# EAGLE library part MOTORSCHUTZSCHALTER_3-POL_THERM_MAG_AUSLOESUNG_ALTERNATIV (library e-motorschutzschalter)
Motorschutzschalter 3-pol mit thermischer und magnetischer Auslösung (alternativ)
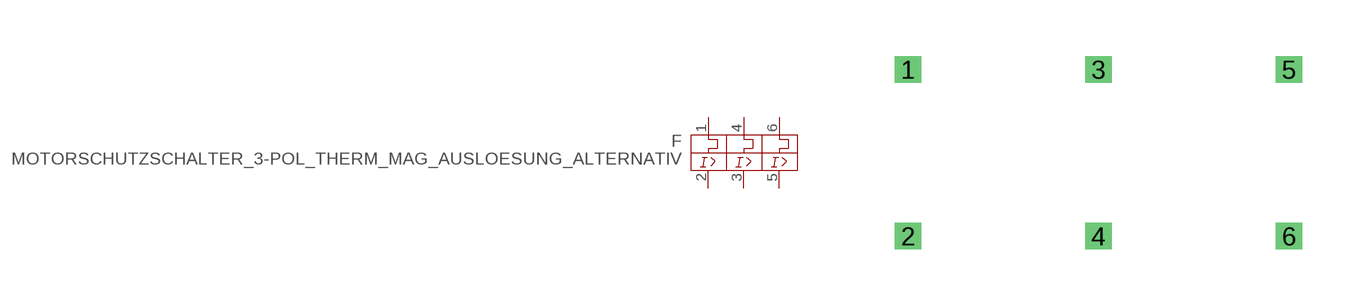
[diagram p4: symbol with the pads of MOTORSCHUTZSCHALTER_3-POL_THERM_MAG_AUSLOESUNG; footprint MOTORSCHUTZSCHALTER_3-POL_THERM_MAG_AUSLOESUNG]

Designator prefix F

## MOTORSCHUTZSCHALTER_3-POL_THERM_MAG_AUSLOESUNG_ALTERNATIV  [MOTORSCHUTZSCHALTER_3-POL_THERM_MAG_AUSLOESUNG]
1  1  pas
2  2  pas
3  3  pas
4  4  pas
5  5  pas
6  6  pas

## Footprint MOTORSCHUTZSCHALTER_3-POL_THERM_MAG_AUSLOESUNG (pad centres in mm)
Dummy
drill 0.2 pad 0.6 square: 1 -5.08,2.54; 2 -5.08,-1.905; 3 0,2.54; 4 0,-1.905; 5 5.08,2.54; 6 5.08,-1.905